# EAGLE library part 0483930003 (library con-usb)
USB 3.0 RA REC TH TYPE A
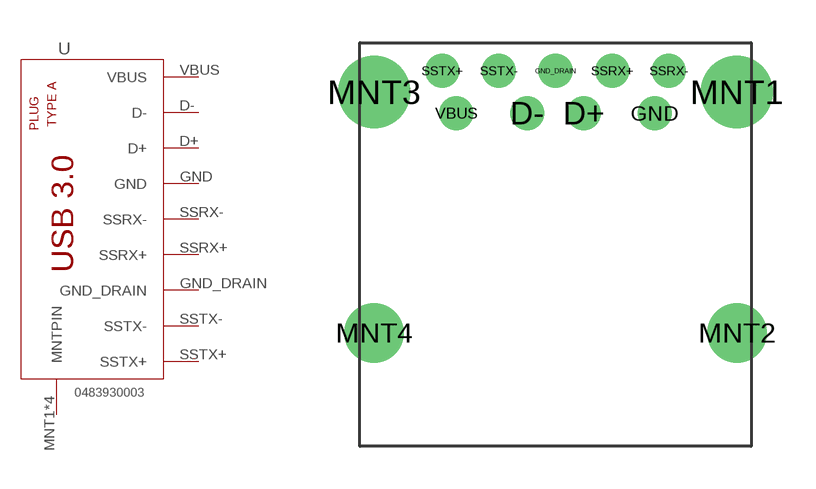
[diagram p13: symbol with the pads of WM10413CT-ND; footprint WM10413CT-ND]

Designator prefix -

## 0483930003 (DESCRIPTION: USB 3.0 RA REC TH TYPE A; DIGIKEY: WM10413CT-ND; MFR: Molex, LLC; MPN: 0483930003)  [WM10413CT-ND]
D+  D+
D-  D-
GND  GND
GND_DRAIN  GND_DRAIN
MNT1  MNTPIN
MNT2  MNTPIN
MNT3  MNTPIN
MNT4  MNTPIN
SSRX+  SSRX+
SSRX-  SSRX-
SSTX+  SSTX+
SSTX-  SSTX-
VBUS  VBUS

## Footprint WM10413CT-ND (pad centres in mm)
drill 0.7: D+ 1,4.625; D- -1,4.625; GND 3.5,4.625; GND_DRAIN 0,6.125; SSRX+ 2,6.125; SSRX- 4,6.125; SSTX+ -4,6.125; SSTX- -2,6.125; VBUS -3.5,4.625
drill 1.7: MNT1 6.4,5.375; MNT3 -6.4,5.375
drill 1.4: MNT2 6.4,-3.125; MNT4 -6.4,-3.125